# Altium schematic symbol library StepperMotor.SchLib: 1 symbol
Pins are listed as number, name and electrical type; pins without a type are passive.

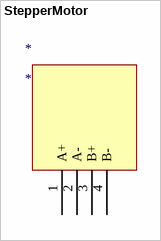
[diagram p0: symbol StepperMotor]

## StepperMotor
designator *
pins: 1 A+, 2 A-, 3 B+, 4 B-